# EAGLE library part 613008243121 (library Wuerth_Elektronik_eiCan_Pin_&_Socked_Headers_v1.3)
WR-PHD Angled Dual Socket Header, 8 Pins
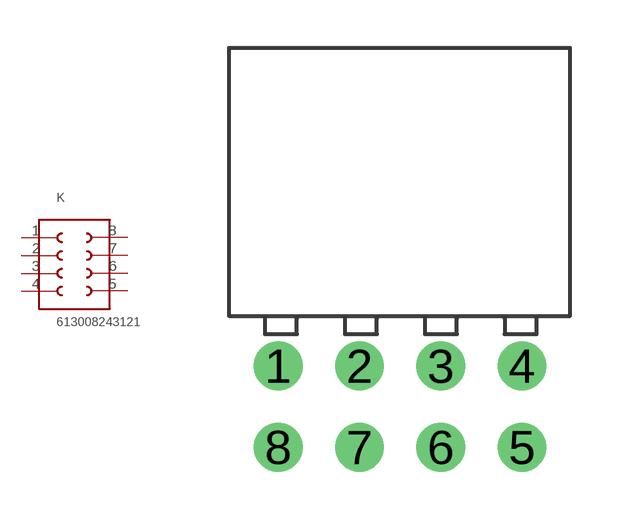
[diagram p167: symbol with the pads of 613008243121; footprint 613008243121]

Designator prefix K

## 613008243121  [613008243121]
1  1  pas
2  2  pas
3  3  pas
4  4  pas
5  5  pas
6  6  pas
7  7  pas
8  8  pas

## Footprint 613008243121 (pad centres in mm)
WR-PHD Angled Dual Socket Header, 8 Pins
drill 1.02 round: 1 -5.08,0; 2 -2.54,0; 3 0,0; 4 2.54,0; 5 2.54,-2.54; 6 0,-2.54; 7 -2.54,-2.54; 8 -5.08,-2.54